# EAGLE library part NRF24L01_8P_ANTENNA (library piweather)
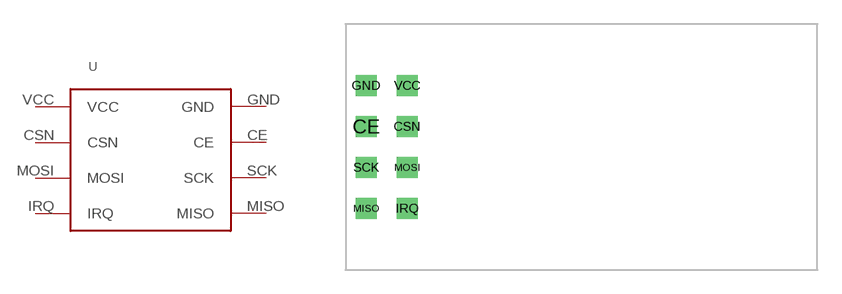
[diagram p6: symbol with the pads of NRF24L01_8P_ANTENNA; footprint NRF24L01_8P_ANTENNA]

Designator prefix -

## NRF24L01_8P_ANTENNA  [NRF24L01_8P_ANTENNA]
CE  CE
CSN  CSN
GND  GND
IRQ  IRQ
MISO  MISO
MOSI  MOSI
SCK  SCK
VCC  VCC

## Footprint NRF24L01_8P_ANTENNA (pad centres in mm)
drill 0.8 square: CE -13.97,1.27; CSN -11.43,1.27; GND -13.97,3.81; IRQ -11.43,-3.81; MISO -13.97,-3.81; MOSI -11.43,-1.27; SCK -13.97,-1.27; VCC -11.43,3.81